# Altium footprint library SO_POWERPACK_8.PcbLib: 1 footprints
Each footprint in its own frame and in the unit in brackets; x right, y up, seen from the top. Pads: shape width x height; smd on the part's side, far side on the other; paste and mask are expansions set on the pad; w line width, h text height; cw(c..) or ccw(c..) is an arc to the next point about the centre after c.
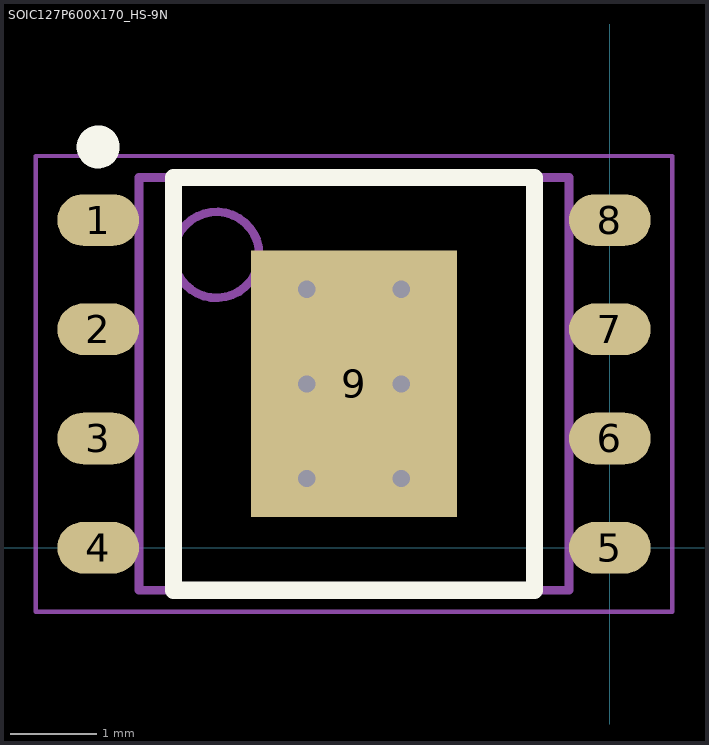
[diagram p0: the footprint, top view; thin cyan lines are the x and y axes]

## SOIC127P600X170_HS-9N [mm] "SOIC, 8-Leads, Body 4.90x4.90mm, Pitch 1.27mm, Thermal Pad 3.10x2.40mm, IPC Medium Density"
height 1.7
pads (9):
  oval 0.95x0.6 smd: 1(-5.95,3.81) 2(-5.95,2.54) 3(-5.95,1.27) 4(-5.95,0) 5(0,0) 6(0,1.27) 7(0,2.54) 8(0,3.81)
  rect 2.4x3.1 smd: 9(-2.975,1.905)
via -2.425,0.805 diameter 0.5 hole 0.2
via -3.525,0.805 diameter 0.5 hole 0.2
via -2.425,1.905 diameter 0.5 hole 0.2
via -3.525,1.905 diameter 0.5 hole 0.2
via -2.425,3.005 diameter 0.5 hole 0.2
via -3.525,3.005 diameter 0.5 hole 0.2
Top Overlay:
  circle w0.25: c-5.95,4.66 r0.125
  lines w0.2: -5.075,-0.495 -0.875,-0.495 -0.875,4.305 -5.075,4.305 -5.075,-0.495
Mechanical 13:
  circle w0.1: c-4.575,3.405 r0.5
  lines w0.1: -5.475,-0.495 -0.475,-0.495 -0.475,4.305 -5.475,4.305 -5.475,-0.495
Mechanical 15:
  lines w0.05: -6.675,-0.745 0.725,-0.745 0.725,4.555 -6.675,4.555 -6.675,-0.745
  lines w0.1: -3.475,1.905 -2.475,1.905 ; -2.975,1.405 -2.975,2.405
3D body "SOIC127P600X170_HS-9N.step": height 1.85, standoff 0.15, extent -6.115,-0.495 0.165,4.305